# Altium footprint library POT_TT35W.PcbLib: 1 footprints
Each footprint in its own frame and in the unit in brackets; x right, y up, seen from the top. Pads: shape width x height; smd on the part's side, far side on the other; paste and mask are expansions set on the pad; w line width, h text height; cw(c..) or ccw(c..) is an arc to the next point about the centre after c.
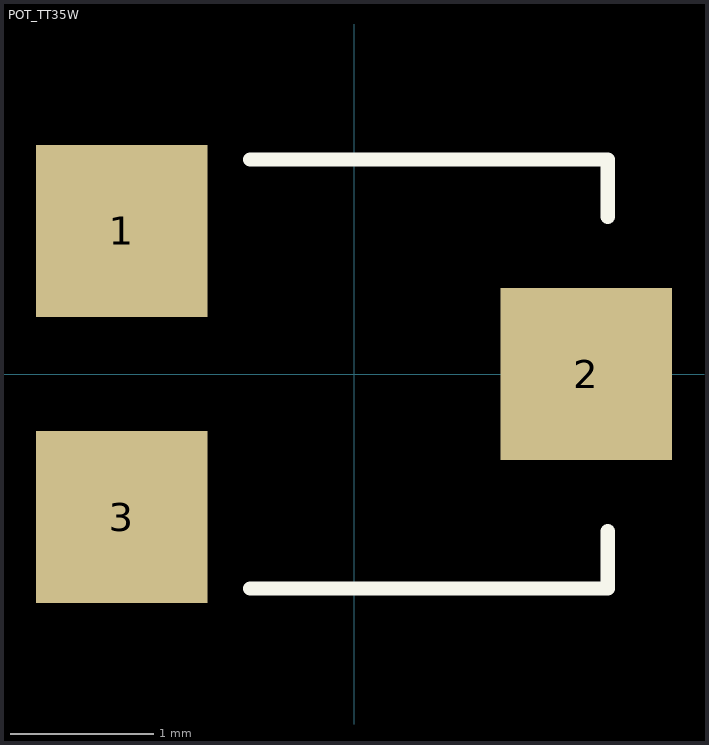
[diagram p0: the footprint, top view; thin cyan lines are the x and y axes]

## POT_TT35W [mm] "Trimmer, 0.1W, Top Adjust"
height 1.7
pads (3):
  rect 1.2x1.2 smd: 1(-1.625,1) 2(1.625,0) 3(-1.625,-1)
Top Overlay:
  lines w0.1: -0.725,-1.5 1.775,-1.5 1.775,-1.1 ; -0.725,1.5 1.775,1.5 1.775,1.1
3D body "35w.stp": height 1.81, standoff 0.01, extent -1.925,-1.5 1.727,1.5